# EAGLE library part M10 (library Skoba)
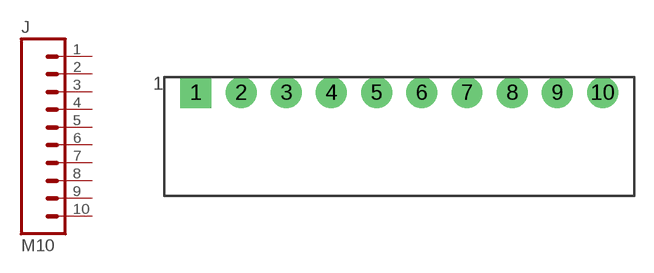
[diagram p28: symbol with the pads of PHOENIX-3.5MM-10-RA; footprint PHOENIX-3.5MM-10-RA]

Designator prefix J

## M10PHOENIX-3.5MM-RA  [PHOENIX-3.5MM-10-RA]
1  1  pas
2  2  pas
3  3  pas
4  4  pas
5  5  pas
6  6  pas
7  7  pas
8  8  pas
9  9  pas
10  10  pas

## Footprint PHOENIX-3.5MM-10-RA (pad centres in mm)
drill 1.45 pad 2.4 square: 1 0,0
drill 1.45 pad 2.4: 2 3.5,0; 3 7,0; 4 10.5,0; 5 14,0; 6 17.5,0; 7 21,0; 8 24.5,0; 9 28,0; 10 31.5,0